# Altium schematic symbol library SPECTER_5.SchLib: 31 symbols
Pins are listed as number, name and electrical type; pins without a type are passive.

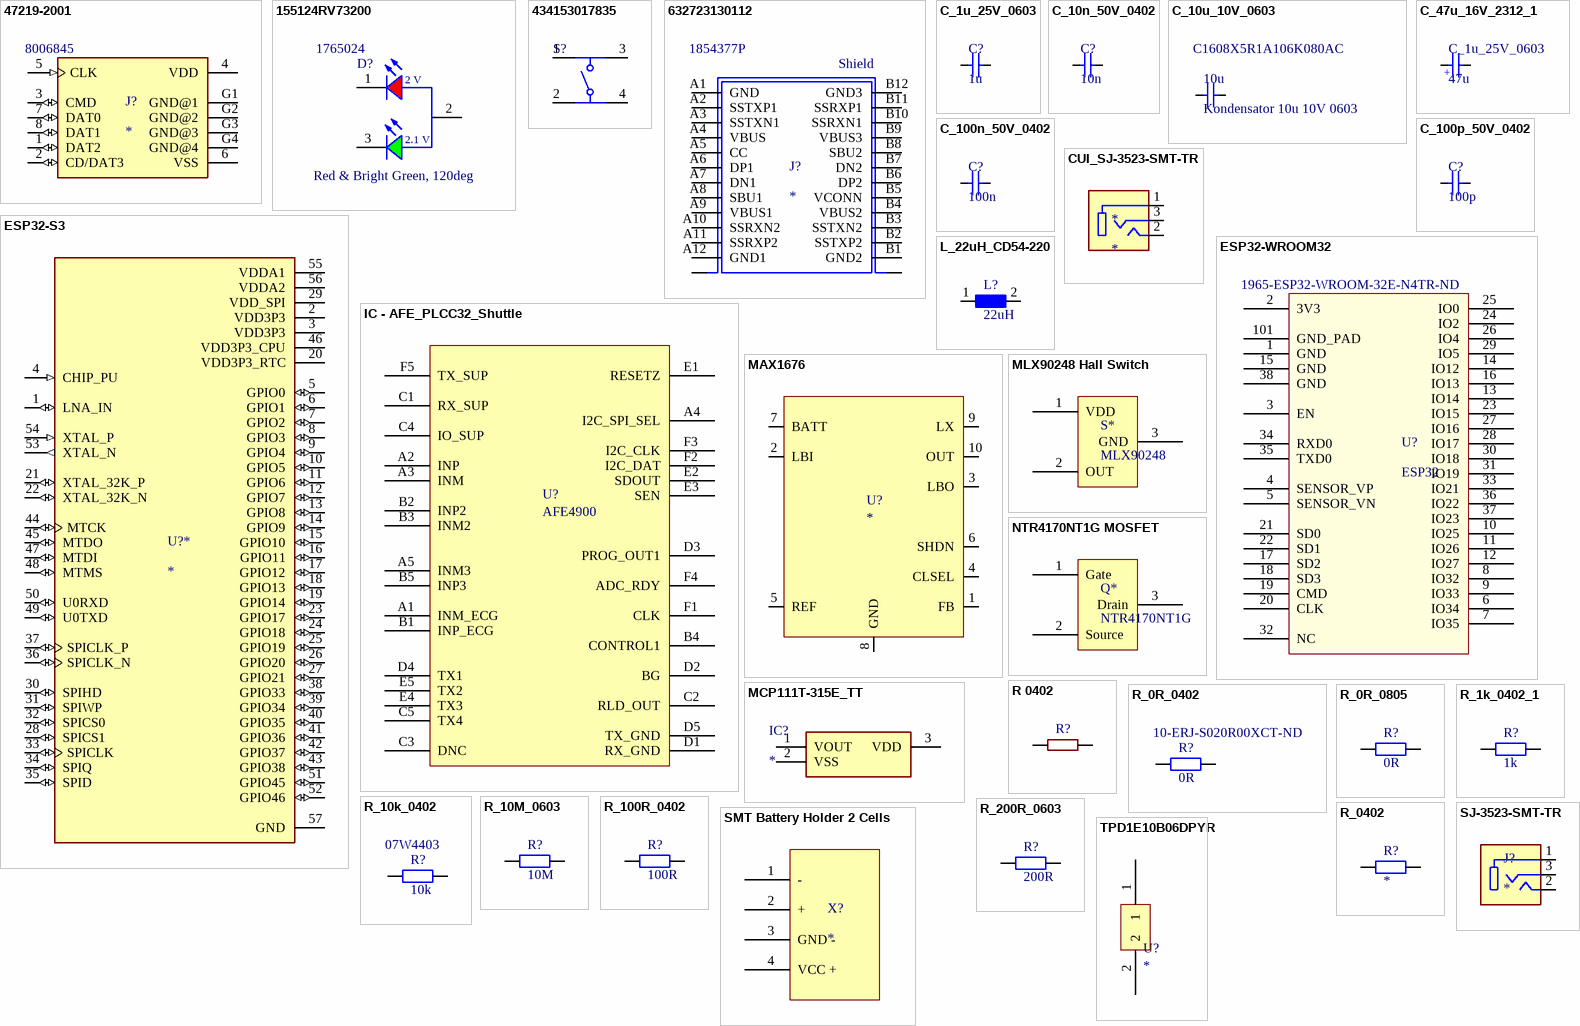
[diagram p0: symbols 47219-2001 to TPD1E10B06DPYR]

## 47219-2001
designator J?  Supplier Part Number 1: 8006845
8 Position Card Connector Secure Digital - microSDâ„¢ Surface Mount, Right Angle Gold; MF: Molex; MP: 47219-2001; Price: None; SnapEDA_Link: https://www.snapeda.com/parts/47219-2001/Molex/view-part/106506/?ref=snap; Package: None; Availability: Unavailable; Value: *; Supplier 1: RSComponents
footprint MOLEX_47219-2001
pins: 1 DAT2 (io), 2 CD/DAT3 (io), 3 CMD (io), 4 VDD (power), 5 CLK (in), 6 VSS (power), 7 DAT0 (io), 8 DAT1 (io), G1 GND@1 (power), G2 GND@2 (power), G3 GND@3 (power), G4 GND@4 (power)

## 155124RV73200
designator D?, comment Red & Bright Green, 120deg  Supplier Part Number 1: 1765024
WL-SBSW SMT Bi-color Side View Waterclear, size 1204, Red & Bright Green, 120deg; Part Number: 155124RV73200; Luminous Intensity: 60mcd@Red, 30mcd@Bright Green; Dominant Wavelength: 624nm@Red, 571nm@Bright Green; Forward Voltage: 2V@Red, 2.1V@Bright Green; Peak Wavelength: 632nm@Red, 573nm@Bright Green; Chip Technology: AlInGaP; ComponentLink1Description: Manufacturer; ComponentLink1URL: http://www.we-online.de; ComponentLink2Description: Datasheet; ComponentLink2URL: https://katalog.we-online.de/led/datasheet/155124RV73200.pdf; Emitting Color: Red & Bright Green; Operating Temperature: -40 to +85degC; Mounting Technology: SMT; Packaging: Tape and Reel; Published Date: October 2019; Publisher: Wurth Elektronik; Size: 1204; Viewing Angle: 120deg; Supplier 1: RSComponents
footprint WL-SBSW_1204 (SMD Bi-color Side view Waterclear, body 3.2x1mm)
pins: 1 K, 2 A, 3 K
text: 2 V; 2.1 V

## 434153017835
designator S?
3.5x2.9mm SMD J-Bend WS-TASV, height 1.7 mm, 350 gf; Part Number: 434153017835; Rated Current: 50 mA; Operation Force: 350 gf; Rated Voltage: 12 VDC; ComponentLink1Description: Manufacturer; ComponentLink1URL: http://www.we-online.de; ComponentLink2Description: Datasheet; ComponentLink2URL: http://katalog.we-online.de/em/datasheet/434153017835.pdf; Published Date: Nov. 2017; Publisher: Wurth Elektronik; Life Cycle: 200000; Operating Temperature: -40 to +85 degC; Size: 3.5x2.9x1.7 mm
footprint 434153017835 (Tact Switch, SMD, body 3.5x2.9mm)
pins: 1, 2, 3, 4

## 632723130112
designator J?  Supplier Part Number 1: 1854377P
USB-C (USB TYPE-C) USB 3.2 Gen 2 (USB 3.1 Gen 2, Superspeed + (USB 3.1)) Receptacle Connector 24 Position Board Edge, Cutout; Surface Mount; Through Hole, Right Angle; MP: 632723130112; MF: Wurth Electronics; Availability: In Stock; SnapEDA_Link: https://www.snapeda.com/parts/632723130112/Wurth+Electronics+Inc./view-part/?ref=snap; Value: *; Price: None; Package: None; Purchase-URL: https://pricing.snapeda.com/search/part/632723130112/?ref=eda; Check_prices: https://www.snapeda.com/parts/632723130112/Wurth+Electronics+Inc./view-part/?ref=eda; Supplier 1: RSComponents
footprint 632723130112
pins: A1 GND, A2 SSTXP1, A3 SSTXN1, A4 VBUS, A5 CC, A6 DP1, A7 DN1, A8 SBU1, A9 VBUS1, A10 SSRXN2, A11 SSRXP2, A12 GND1, B1 GND2, B2 SSTXP2, B3 SSTXN2, B4 VBUS2, B5 VCONN, B6 DP2, B7 DN2, B8 SBU2, B9 VBUS3, B10 SSRXN1, B11 SSRXP1, B12 GND3, S1 SHIELD, S2 SHIELD, S3 SHIELD1, S4 SHIELD1
text: Shield

## C_1u_25V_0603
designator C?, comment 1u
Kondensator 1u 25V X7R 0603; Tested: False; Supplier 1: Farnell; Supplier Part Number 1: 2495176
footprint CAPC1608X05N (Chip Capacitor, 2-Leads, Body 1,60x0,80mm, IPC Medium Density, 0603)
pins: 1, 2

## C_10n_50V_0402
designator C?, comment 10n
Kondensator 10n 50V 0402; Tested: False; Supplier 1: Farnell; Supplier Part Number 1: 1828887
footprint CAPC1005X03N (Chip Capacitor, 2-Leads, Body 1,00x0,50mm, IPC Medium Density, 0402)
pins: 1, 2

## C_10u_10V_0603
designator 10u, comment Kondensator 10u 10V 0603  Supplier Part Number 2: C1608X5R1A106K080AC
Supplier 1: Digi-Key; Supplier 2: Arrow Electronics; Supplier Part Number 1: 1276-2897-1-ND
footprint CAPC1608X05N (Chip Capacitor, 2-Leads, Body 1,60x0,80mm, IPC Medium Density, 0603)
pins: 1, 2

## C_47u_16V_2312_1
designator C_1u_25V_0603, comment 47u
Kondensator 47u 16V Tanatalum Capacitor; Cart: https://www.mouser.de/ProductDetail/AVX/TPSC476M016R0350?qs=%2Fha2pyFaduhj%252BASDCSGgk2azjUMSnKvo3TkO6PkyHka4p8K%2FssSCRw%3D%3D; Datasheet: https://www.mouser.de/datasheet/2/40/tps-776850.pdf
footprint AVX TPSC476M016R0350 (47uF, 16V tantalum capacitor, DFN, 2-Leads, Body 3,25x6,00mm, Pitch 4,20mm, IPC Medium Density)
pins: 1, 2
text: +

## C_100n_50V_0402
designator C?, comment 100n
Kondensator 100n 50V 0402; Supplier 1: Arrow Electronics; Supplier 2: Arrow Electronics; Supplier Part Number 1: GCM155R71H104KE02D; Supplier Part Number 2: CGA2B3X7R1H104K050BB
footprint CAPC1005X03N (Chip Capacitor, 2-Leads, Body 1,00x0,50mm, IPC Medium Density, 0402)
pins: 1, 2

## C_100p_50V_0402
designator C?, comment 100p
Kondensator 100p 50V 0402; Tested: False; Supplier 1: Farnell
footprint CAPC1005X03N (Chip Capacitor, 2-Leads, Body 1,00x0,50mm, IPC Medium Density, 0402)
pins: 1, 2

## CUI_SJ-3523-SMT-TR
designator *
pins: 1, 2, 3

## ESP32-S3
designator U?*
IC RF TxRx + MCU Bluetooth, WiFi 802.11b/g/n, Bluetooth v5.0 2.412GHz ~ 2.484GHz 56-VFQFN Exposed Pad
footprint IC_ESP32-S3
pins: 1 LNA_IN (io), 2 VDD3P3 (power), 3 VDD3P3 (power), 4 CHIP_PU (in), 5 GPIO0 (io), 6 GPIO1 (io), 7 GPIO2 (io), 8 GPIO3 (io), 9 GPIO4 (io), 10 GPIO5 (io), 11 GPIO6 (io), 12 GPIO7 (io), 13 GPIO8 (io), 14 GPIO9 (io), 15 GPIO10 (io), 16 GPIO11 (io), 17 GPIO12 (io), 18 GPIO13 (io), 19 GPIO14 (io), 20 VDD3P3_RTC (power), 21 XTAL_32K_P (io), 22 XTAL_32K_N (io), 23 GPIO17 (io), 24 GPIO18 (io), 25 GPIO19 (io), 26 GPIO20 (io), 27 GPIO21 (io), 28 SPICS1 (io), 29 VDD_SPI (power), 30 SPIHD (io), 31 SPIWP (io), 32 SPICS0 (io), 33 SPICLK (io), 34 SPIQ (io), 35 SPID (io), 36 SPICLK_N (io), 37 SPICLK_P (io), 38 GPIO33 (io), 39 GPIO34 (io), 40 GPIO35 (io), 41 GPIO36 (io), 42 GPIO37 (io), 43 GPIO38 (io), 44 MTCK (io), 45 MTDO (io), 46 VDD3P3_CPU (power), 47 MTDI (io), 48 MTMS (io), 49 U0TXD (io), 50 U0RXD (io), 51 GPIO45 (io), 52 GPIO46 (io), 53 XTAL_N (out), 54 XTAL_P (in), 55 VDDA1 (power), 56 VDDA2 (power), 57 GND (power)

## ESP32-WROOM32
designator U?, comment ESP32  Supplier Part Number 1: 1965-ESP32-WROOM-32E-N4TR-ND
Espressiv ESP32-WROOM32 WLAN Bluetooth Module; Supplier 1: Digi-Key
footprint ESP32-WROOM-32 (ESP32-WROOM-32-Module)
pins: 1 GND (power), 2 3V3 (power), 3 EN (power), 4 SENSOR_VP, 5 SENSOR_VN, 6 IO34, 7 IO35, 8 IO32, 9 IO33, 10 IO25, 11 IO26, 12 IO27, 13 IO14, 14 IO12, 15 GND (power), 16 IO13, 17 SD2, 18 SD3, 19 CMD, 20 CLK, 21 SD0, 22 SD1, 23 IO15, 24 IO2, 25 IO0, 26 IO4, 27 IO16, 28 IO17, 29 IO5, 30 IO18, 31 IO19, 32 NC, 33 IO21, 34 RXD0, 35 TXD0, 36 IO22, 37 IO23, 38 GND (power), 101 GND_PAD (power)

## IC - AFE_PLCC32_Shuttle
designator U?, comment AFE4900
Synchronized_ECG_and_PPG_AFE
footprint CON - PLCC32 Fassung
pins: A1 INM_ECG, A2 INP, A3 INM, A4 I2C_SPI_SEL, A5 INM3, B1 INP_ECG, B2 INP2, B3 INM2, B4 CONTROL1, B5 INP3, C1 RX_SUP, C2 RLD_OUT, C3 DNC, C4 IO_SUP, C5 TX4, D1 RX_GND, D2 BG, D3 PROG_OUT1, D4 TX1, D5 TX_GND, E1 RESETZ, E2 SDOUT, E3 SEN, E4 TX3, E5 TX2, F1 CLK, F2 I2C_DAT, F3 I2C_CLK, F4 ADC_RDY, F5 TX_SUP

## L_22uH_CD54-220
designator L?, comment 22uH
22uH power inductor (1.1 A) Sumida CD54-220; Cart: https://www.digikey.de/product-detail/de/sumida-america-components-inc/CD54NP-220MC/308-2271-1-ND/4356341; Datasheet: http://products.sumida.com/products/pdf/CD54.pdf
footprint CD54-220 (22uF, 1.11A Inductor, Precision Wire Wound Inductor, 2-Leads, Body 5,20x5,80mm, IPC Medium Density)
pins: 1 "L1 Start", 2 "L1 Finish"

## MAX1676
designator U?
Boost, Step-Up DC-DC Converter
footprint MAX1676-Boost (Boost, Step-Up DC-DC Converter, TSSOP, 10-Leads, Body 2,82x1049,03mm, Pitch 0,50mm, IPC Medium Density)
pins: 1 FB, 2 LBI, 3 LBO, 4 CLSEL, 5 REF, 6 SHDN, 7 BATT, 8 GND, 9 LX, 10 OUT

## MCP111T-315E_TT
designator IC?
Integrated Circuit; Manufacturer_Name: Microchip; Manufacturer_Part_Number: MCP111T-315E/TT; Height: 1.12mm
footprint SOT96P237X112-3N
pins: 1 VOUT, 2 VSS, 3 VDD

## MLX90248 Hall Switch
designator S*, comment MLX90248
MLX90248 Hall Switch
footprint MLX90248 (Hall Switch 3V TSOT-3L Melexis)
pins: 1 VDD, 2 OUT, 3 GND

## NTR4170NT1G MOSFET
designator Q*, comment NTR4170NT1G
NTR4170NT1G MOSFET 30V 3.9A
footprint NTR4170NT1G (MOSFET 30V 3.9A - SOT23, 3-Leads, Body 2,92x2,45mm, Pitch 0,95mm, IPC Medium Density)
pins: 1 Gate, 2 Source, 3 Drain

## R 0402
designator R?
footprint R 0402
pins: 1, 2

## R_0R_0402
designator R?, comment 0R  Supplier Part Number 1: 10-ERJ-S020R00XCT-ND
Widerstand 0R 0402; Supplier 1: Digi-Key
footprint RESC1005X03N (Chip Resistor, 2-Leads, Body 1,00x0,50mm, IPC Medium Density, 0402)
pins: 1, 2

## R_0R_0805
designator R?, comment 0R
Widerstand 0R 0805; Tested: False; Supplier 1: Farnell; Supplier Part Number 1: 2057661
footprint RESC2012X05N (Chip Resistor, 2-Leads, Body 2,00x1,25mm, IPC Medium Density, 0805)
pins: 1, 2

## R_1k_0402_1
designator R?, comment 1k
Widerstand 1k 1% 0402; Tested: False; Supplier 1: Farnell; Supplier Part Number 1: 2447120
footprint RESC1005X03N (Chip Resistor, 2-Leads, Body 1,00x0,50mm, IPC Medium Density, 0402)
pins: 1, 2

## R_10k_0402
designator R?, comment 10k  Supplier Part Number 1: 07W4403
Widerstand 10k 1% 0402; Supplier 1: Newark
footprint RESC1005X03N (Chip Resistor, 2-Leads, Body 1,00x0,50mm, IPC Medium Density, 0402)
pins: 1, 2

## R_10M_0603
designator R?, comment 10M
Widerstand 10M 1% 100mW 75V 0603; Tested: False; Supplier 1: Mouser; Supplier Part Number 1: 660-RK73H1JTTD1005F
footprint RESC1608X05N (Chip Resistor, 2-Leads, Body 1,60x0,80mm, IPC Medium Density, 0603)
pins: 1, 2

## R_100R_0402
designator R?, comment 100R
Widerstand 100R 1% 0402; Tested: False; Supplier 1: Farnell; Supplier Part Number 1: 9239111
footprint RESC1005X03N (Chip Resistor, 2-Leads, Body 1,00x0,50mm, IPC Medium Density, 0402)
pins: 1, 2

## R_200R_0603
designator R?, comment 200R
Widerstand 200R 1% 100mW 50V 0603; Tested: False; Supplier 1: Farnell; Supplier Part Number 1: 2447292
footprint RESC1005X03N (Chip Resistor, 2-Leads, Body 1,00x0,50mm, IPC Medium Density, 0402)
pins: 1, 2

## R_0402
designator R?
Widerstand 0402; Tested: False
footprint RESC1005X03N (Chip Resistor, 2-Leads, Body 1,00x0,50mm, IPC Medium Density, 0402)
pins: 1, 2

## SJ-3523-SMT-TR
designator J?
<b>Audio Jack Connector</b> 3.5 mm Low Profile Surface Mount Stereo Jack, 3 Pin Right-Angle; MP: SJ-3523-SMT-TR; Package: None; Value: *; Availability: Unavailable; Price: None
footprint CUI_SJ-3523-SMT-TR
pins: 1, 2, 3

## SMT Battery Holder 2 Cells
designator X?
SMT Battery Holder, Keystone Electronics, 2 Cells AAA; Cart: https://www.digikey.de/product-detail/de/keystone-electronics/1022/36-1022-ND/2137859; Datasheet: https://www.keyelco.com/userAssets/file/M65p23.pdf
footprint SMT Battery Holder (SMT Battery Holder, Zylindrisch, 2 Cells AAA)
pins: 1 -, 2 +, 3 GND -, 4 VCC +

## TPD1E10B06DPYR
designator U?
TPD1E10B06DPYR 0402
footprint TPD1E10B06DPYR_0402 - duplicate (ESD-Entstörer/TVS-Dioden, DFN, 2-Leads, 0402, Body 0.60x1.00mm, Pitch 0.70mm, IPC Medium Density)
pins: 1, 2